# Altium schematic symbol library TUSB564.SchLib: 1 symbol
Pins are listed as number, name and electrical type; pins without a type are passive.

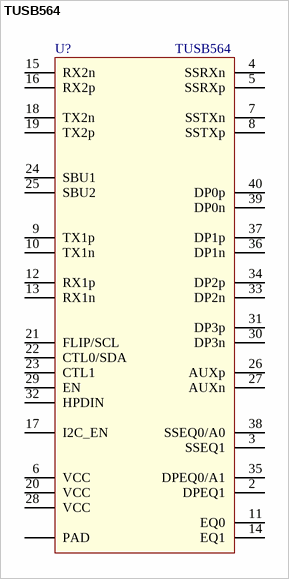
[diagram p0: symbol TUSB564]

## TUSB564
designator U?
4 USB TYPE-C™ DP Alt Mode 8.1 Gbps / Sink-Side Linear Redriver Crosspoint Switch; value: TUSB564
pins: 2 DPEQ1, 3 SSEQ1, 4 SSRXn, 5 SSRXp, 6 VCC (power), 7 SSTXn, 8 SSTXp, 9 TX1p, 10 TX1n, 11 EQ0, 12 RX1p, 13 RX1n, 14 EQ1, 15 RX2n, 16 RX2p, 17 I2C_EN, 18 TX2n, 19 TX2p, 20 VCC (power), 21 FLIP/SCL, 22 CTL0/SDA, 23 CTL1, 24 SBU1, 25 SBU2, 26 AUXp, 27 AUXn, 28 VCC (power), 29 EN, 30 DP3n, 31 DP3p, 32 HPDIN, 33 DP2n, 34 DP2p, 35 DPEQ0/A1, 36 DP1n, 37 DP1p, 38 SSEQ0/A0, 39 DP0n, 40 DP0p, PAD